# Altium integrated library TI Logic Buffer Line Driver.IntLib: 1053 symbols (part 10 of 17)
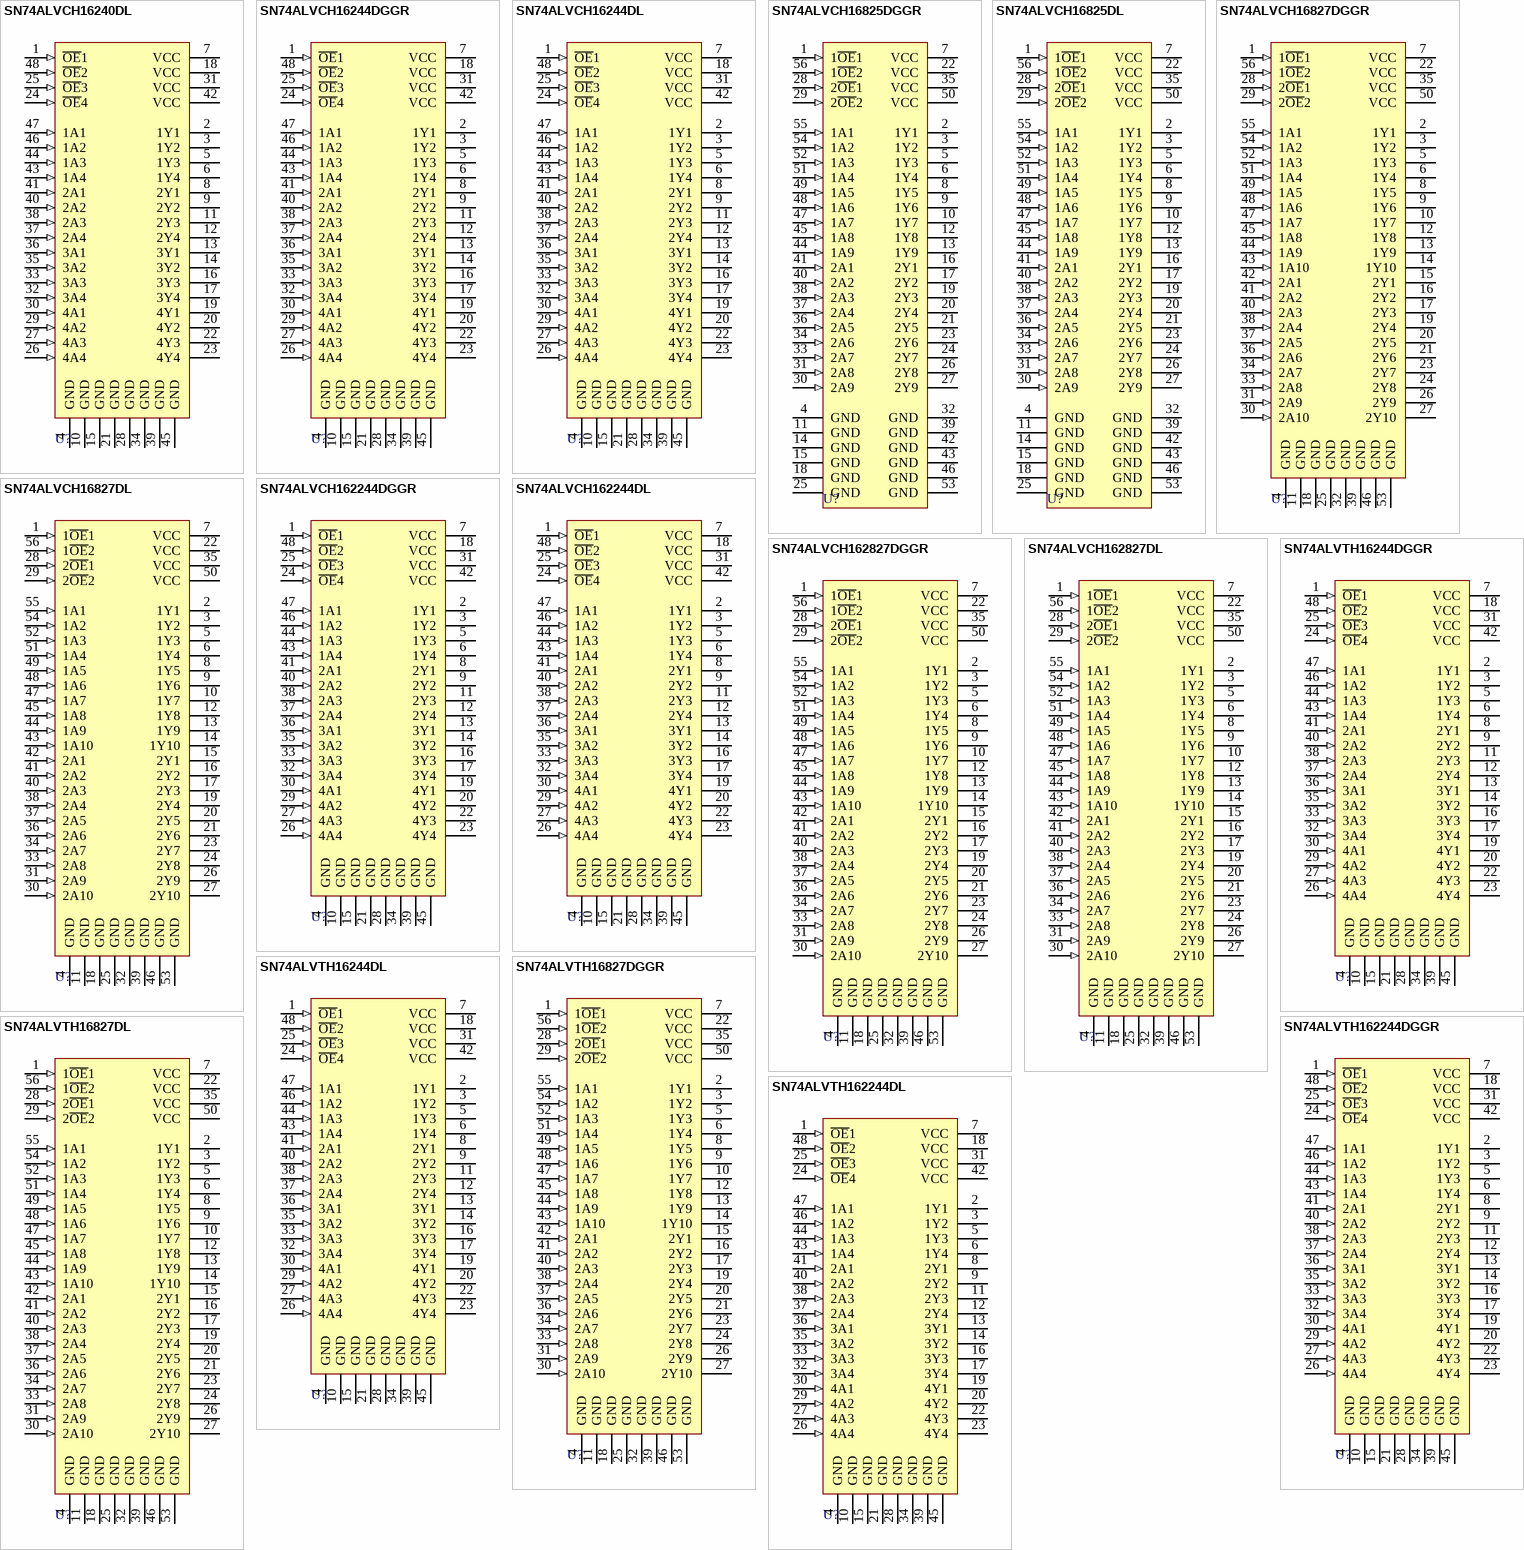
[diagram p54: symbols SN74ALVCH16240DL to SN74ALVTH162244DL]

## SN74ALVTH16827DGGR
designator U?
2.5-V/3.3-V 20-Bit Buffer/Driver with 3-State Outputs; Package Information: Latest Revision: Jan-1998; Published: 8-Jun-2000; Revision: 17-Jul-2002: Re-released for DXP Platform.; Datasheet: Latest Revision: Dec-1998; Package Reference: DGG056; Publisher: Altium Limited
footprint DGG056 (Shrink Small Outline; 56 Leads; Body Width 6.1 mm; Pitch 0.5 mm)
pins: 1 1~{OE}1 (in), 2 1Y1 (hiz), 3 1Y2 (hiz), 4 GND (power), 5 1Y3 (hiz), 6 1Y4 (hiz), 7 VCC (power), 8 1Y5 (hiz), 9 1Y6 (hiz), 10 1Y7 (hiz), 11 GND (power), 12 1Y8 (hiz), 13 1Y9 (hiz), 14 1Y10 (hiz), 15 2Y1 (hiz), 16 2Y2 (hiz), 17 2Y3 (hiz), 18 GND (power), 19 2Y4 (hiz), 20 2Y5 (hiz), 21 2Y6 (hiz), 22 VCC (power), 23 2Y7 (hiz), 24 2Y8 (hiz), 25 GND (power), 26 2Y9 (hiz), 27 2Y10 (hiz), 28 2~{OE}1 (in), 29 2~{OE}2 (in), 30 2A10 (in), 31 2A9 (in), 32 GND (power), 33 2A8 (in), 34 2A7 (in), 35 VCC (power), 36 2A6 (in), 37 2A5 (in), 38 2A4 (in), 39 GND (power), 40 2A3 (in), 41 2A2 (in), 42 2A1 (in), 43 1A10 (in), 44 1A9 (in), 45 1A8 (in), 46 GND (power), 47 1A7 (in), 48 1A6 (in), 49 1A5 (in), 50 VCC (power), 51 1A4 (in), 52 1A3 (in), 53 GND (power), 54 1A2 (in), 55 1A1 (in), 56 1~{OE}2 (in)

## SN74ALVTH16827DL
designator U?
2.5-V/3.3-V 20-Bit Buffer/Driver with 3-State Outputs; Package Information: Latest Revision: Jan-1998; Code - JEDEC: MO-118-AB; Code - IPC: SSO56; Published: 8-Jun-2000; Revision: 17-Jul-2002: Re-released for DXP Platform.; Datasheet: Latest Revision: Dec-1998; Package Reference: DL056; Publisher: Altium Limited
footprint DL056 (SSOP; 56 Leads; Body Width 7.5 mm; Pitch 0.635 mm)
pins: 1 1~{OE}1 (in), 2 1Y1 (hiz), 3 1Y2 (hiz), 4 GND (power), 5 1Y3 (hiz), 6 1Y4 (hiz), 7 VCC (power), 8 1Y5 (hiz), 9 1Y6 (hiz), 10 1Y7 (hiz), 11 GND (power), 12 1Y8 (hiz), 13 1Y9 (hiz), 14 1Y10 (hiz), 15 2Y1 (hiz), 16 2Y2 (hiz), 17 2Y3 (hiz), 18 GND (power), 19 2Y4 (hiz), 20 2Y5 (hiz), 21 2Y6 (hiz), 22 VCC (power), 23 2Y7 (hiz), 24 2Y8 (hiz), 25 GND (power), 26 2Y9 (hiz), 27 2Y10 (hiz), 28 2~{OE}1 (in), 29 2~{OE}2 (in), 30 2A10 (in), 31 2A9 (in), 32 GND (power), 33 2A8 (in), 34 2A7 (in), 35 VCC (power), 36 2A6 (in), 37 2A5 (in), 38 2A4 (in), 39 GND (power), 40 2A3 (in), 41 2A2 (in), 42 2A1 (in), 43 1A10 (in), 44 1A9 (in), 45 1A8 (in), 46 GND (power), 47 1A7 (in), 48 1A6 (in), 49 1A5 (in), 50 VCC (power), 51 1A4 (in), 52 1A3 (in), 53 GND (power), 54 1A2 (in), 55 1A1 (in), 56 1~{OE}2 (in)

## SN74ALVTH162244DGGR
designator U?
2.5-V/3.3-V 16-Bit Buffer/Driver with 3-State Outputs; Package Information: Latest Revision: Jan-1998; Published: 8-Jun-2000; Revision: 17-Jul-2002: Re-released for DXP Platform.; Datasheet: Latest Revision: Jan-1999; Package Reference: DGG048; Publisher: Altium Limited
footprint DGG048 (Shrink Small Outline; 48 Leads; Body Width 6.1 mm; Pitch 0.5 mm)
pins: 1 ~{OE}1 (in), 2 1Y1 (hiz), 3 1Y2 (hiz), 4 GND (power), 5 1Y3 (hiz), 6 1Y4 (hiz), 7 VCC (power), 8 2Y1 (hiz), 9 2Y2 (hiz), 10 GND (power), 11 2Y3 (hiz), 12 2Y4 (hiz), 13 3Y1 (hiz), 14 3Y2 (hiz), 15 GND (power), 16 3Y3 (hiz), 17 3Y4 (hiz), 18 VCC (power), 19 4Y1 (hiz), 20 4Y2 (hiz), 21 GND (power), 22 4Y3 (hiz), 23 4Y4 (hiz), 24 ~{OE}4 (in), 25 ~{OE}3 (in), 26 4A4 (in), 27 4A3 (in), 28 GND (power), 29 4A2 (in), 30 4A1 (in), 31 VCC (power), 32 3A4 (in), 33 3A3 (in), 34 GND (power), 35 3A2 (in), 36 3A1 (in), 37 2A4 (in), 38 2A3 (in), 39 GND (power), 40 2A2 (in), 41 2A1 (in), 42 VCC (power), 43 1A4 (in), 44 1A3 (in), 45 GND (power), 46 1A2 (in), 47 1A1 (in), 48 ~{OE}2 (in)

## SN74ALVTH162244DL
designator U?
2.5-V/3.3-V 16-Bit Buffer/Driver with 3-State Outputs; Package Information: Latest Revision: Jan-1998; Code - JEDEC: MO-118-AA; Code - IPC: SSO48; Published: 8-Jun-2000; Revision: 17-Jul-2002: Re-released for DXP Platform.; Datasheet: Latest Revision: Jan-1999; Package Reference: DL048; Publisher: Altium Limited
footprint DL048 (SSOP; 48 Leads; Body Width 7.5 mm; Pitch 0.635 mm)
pins: 1 ~{OE}1 (in), 2 1Y1 (hiz), 3 1Y2 (hiz), 4 GND (power), 5 1Y3 (hiz), 6 1Y4 (hiz), 7 VCC (power), 8 2Y1 (hiz), 9 2Y2 (hiz), 10 GND (power), 11 2Y3 (hiz), 12 2Y4 (hiz), 13 3Y1 (hiz), 14 3Y2 (hiz), 15 GND (power), 16 3Y3 (hiz), 17 3Y4 (hiz), 18 VCC (power), 19 4Y1 (hiz), 20 4Y2 (hiz), 21 GND (power), 22 4Y3 (hiz), 23 4Y4 (hiz), 24 ~{OE}4 (in), 25 ~{OE}3 (in), 26 4A4 (in), 27 4A3 (in), 28 GND (power), 29 4A2 (in), 30 4A1 (in), 31 VCC (power), 32 3A4 (in), 33 3A3 (in), 34 GND (power), 35 3A2 (in), 36 3A1 (in), 37 2A4 (in), 38 2A3 (in), 39 GND (power), 40 2A2 (in), 41 2A1 (in), 42 VCC (power), 43 1A4 (in), 44 1A3 (in), 45 GND (power), 46 1A2 (in), 47 1A1 (in), 48 ~{OE}2 (in)

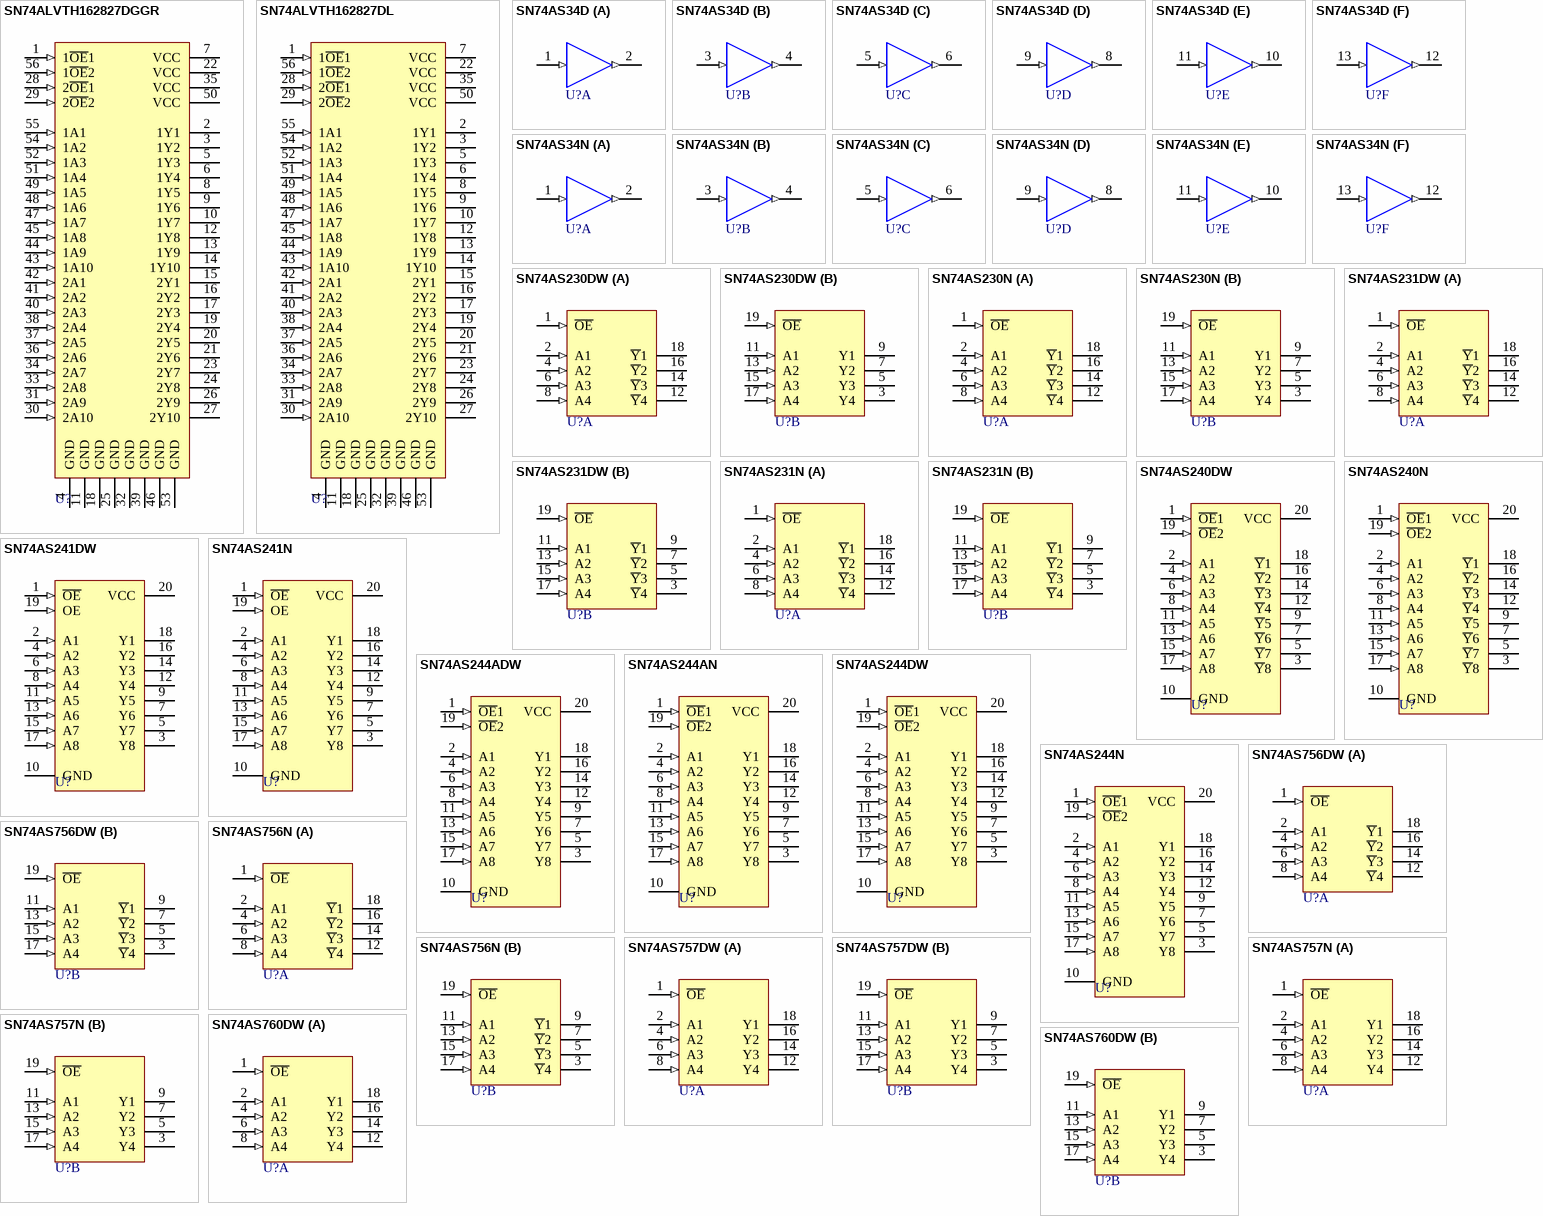
[diagram p25: symbols SN74ALVTH162827DGGR to SN74AS760DW]

## SN74ALVTH162827DGGR
designator U?
2.5-V/3.3-V 20-Bit Buffer/Driver with 3-State Outputs; Package Information: Latest Revision: Jan-1998; Published: 8-Jun-2000; Revision: 17-Jul-2002: Re-released for DXP Platform.; Datasheet: Latest Revision: Dec-1998; Package Reference: DGG056; Publisher: Altium Limited
footprint DGG056 (Shrink Small Outline; 56 Leads; Body Width 6.1 mm; Pitch 0.5 mm)
pins: 1 1~{OE}1 (in), 2 1Y1 (hiz), 3 1Y2 (hiz), 4 GND (power), 5 1Y3 (hiz), 6 1Y4 (hiz), 7 VCC (power), 8 1Y5 (hiz), 9 1Y6 (hiz), 10 1Y7 (hiz), 11 GND (power), 12 1Y8 (hiz), 13 1Y9 (hiz), 14 1Y10 (hiz), 15 2Y1 (hiz), 16 2Y2 (hiz), 17 2Y3 (hiz), 18 GND (power), 19 2Y4 (hiz), 20 2Y5 (hiz), 21 2Y6 (hiz), 22 VCC (power), 23 2Y7 (hiz), 24 2Y8 (hiz), 25 GND (power), 26 2Y9 (hiz), 27 2Y10 (hiz), 28 2~{OE}1 (in), 29 2~{OE}2 (in), 30 2A10 (in), 31 2A9 (in), 32 GND (power), 33 2A8 (in), 34 2A7 (in), 35 VCC (power), 36 2A6 (in), 37 2A5 (in), 38 2A4 (in), 39 GND (power), 40 2A3 (in), 41 2A2 (in), 42 2A1 (in), 43 1A10 (in), 44 1A9 (in), 45 1A8 (in), 46 GND (power), 47 1A7 (in), 48 1A6 (in), 49 1A5 (in), 50 VCC (power), 51 1A4 (in), 52 1A3 (in), 53 GND (power), 54 1A2 (in), 55 1A1 (in), 56 1~{OE}2 (in)

## SN74ALVTH162827DL
designator U?
2.5-V/3.3-V 20-Bit Buffer/Driver with 3-State Outputs; Package Information: Latest Revision: Jan-1998; Code - JEDEC: MO-118-AB; Code - IPC: SSO56; Published: 8-Jun-2000; Revision: 17-Jul-2002: Re-released for DXP Platform.; Datasheet: Latest Revision: Dec-1998; Package Reference: DL056; Publisher: Altium Limited
footprint DL056 (SSOP; 56 Leads; Body Width 7.5 mm; Pitch 0.635 mm)
pins: 1 1~{OE}1 (in), 2 1Y1 (hiz), 3 1Y2 (hiz), 4 GND (power), 5 1Y3 (hiz), 6 1Y4 (hiz), 7 VCC (power), 8 1Y5 (hiz), 9 1Y6 (hiz), 10 1Y7 (hiz), 11 GND (power), 12 1Y8 (hiz), 13 1Y9 (hiz), 14 1Y10 (hiz), 15 2Y1 (hiz), 16 2Y2 (hiz), 17 2Y3 (hiz), 18 GND (power), 19 2Y4 (hiz), 20 2Y5 (hiz), 21 2Y6 (hiz), 22 VCC (power), 23 2Y7 (hiz), 24 2Y8 (hiz), 25 GND (power), 26 2Y9 (hiz), 27 2Y10 (hiz), 28 2~{OE}1 (in), 29 2~{OE}2 (in), 30 2A10 (in), 31 2A9 (in), 32 GND (power), 33 2A8 (in), 34 2A7 (in), 35 VCC (power), 36 2A6 (in), 37 2A5 (in), 38 2A4 (in), 39 GND (power), 40 2A3 (in), 41 2A2 (in), 42 2A1 (in), 43 1A10 (in), 44 1A9 (in), 45 1A8 (in), 46 GND (power), 47 1A7 (in), 48 1A6 (in), 49 1A5 (in), 50 VCC (power), 51 1A4 (in), 52 1A3 (in), 53 GND (power), 54 1A2 (in), 55 1A1 (in), 56 1~{OE}2 (in)

## SN74AS34D
designator U?
Hex Non-Inverter; Revision 1: 16-Jan-2001: Symbol size reduced. Output electrical type changed from HiZ to Output.; Revision 2: 17-Jul-2002: Re-released for DXP Platform.; Package Information: Latest Revision: Jan-1998; Published: 8-Jun-2000; Datasheet: Latest Revision: May-1986; Package Reference: D014; Publisher: Altium Limited
footprint D014 (Small Outline; 14 Leads; Body Width 3.9 mm; Pitch 1.27 mm)
signal-integrity model SN74AS34D
pins on every part: 7 GND (power) hidden to GND, 14 VCC (power) hidden to VCC
part A pins: 1 A (in), 2 Y (out)
part B pins: 3 A (in), 4 Y (out)
part C pins: 5 A (in), 6 Y (out)
part D pins: 8 Y (out), 9 A (in)
part E pins: 10 Y (out), 11 A (in)
part F pins: 12 Y (out), 13 A (in)

## SN74AS34N
designator U?
Hex Non-Inverter; Revision 1: 16-Jan-2001: Symbol size reduced. Output electrical type changed from HiZ to Output.; Revision 2: 17-Jul-2002: Re-released for DXP Platform.; Package Information: Latest Revision: Oct-1995; Published: 8-Jun-2000; Datasheet: Latest Revision: May-1986; Package Reference: N014; Publisher: Altium Limited
footprint N014 (DIP; 14 Leads; Row Spacing 7.62 mm; Pitch 2.54 mm)
signal-integrity model SN74AS34N
pins on every part: 7 GND (power) hidden to GND, 14 VCC (power) hidden to VCC
part A pins: 1 A (in), 2 Y (out)
part B pins: 3 A (in), 4 Y (out)
part C pins: 5 A (in), 6 Y (out)
part D pins: 8 Y (out), 9 A (in)
part E pins: 10 Y (out), 11 A (in)
part F pins: 12 Y (out), 13 A (in)

## SN74AS230DW
designator U?
Octal Buffer/Driver with 3-State Outputs; Package Information: Latest Revision: Mar-2000; Code - JEDEC: MS-013; Published: 8-Jun-2000; Revision: 17-Jul-2002: Re-released for DXP Platform.; Datasheet: 1986 ALS/AS Logic Data Book (May-1986); Package Reference: DW020; Publisher: Altium Limited
footprint DW020 (Plastic Small Outline; 20 Leads; Body Width 7.5 mm)
signal-integrity model SN74AS230DW
pins on every part: 10 GND (power) hidden to GND, 20 VCC (power) hidden to VCC
part A pins: 1 ~{OE} (in), 2 A1 (in), 4 A2 (in), 6 A3 (in), 8 A4 (in), 12 ~{Y}4 (hiz), 14 ~{Y}3 (hiz), 16 ~{Y}2 (hiz), 18 ~{Y}1 (hiz)
part B pins: 3 Y4 (hiz), 5 Y3 (hiz), 7 Y2 (hiz), 9 Y1 (hiz), 11 A1 (in), 13 A2 (in), 15 A3 (in), 17 A4 (in), 19 ~{OE} (in)

## SN74AS230N
designator U?
Octal Buffer/Driver with 3-State Outputs; Package Information: Latest Revision: Oct-1995; Published: 8-Jun-2000; Revision: 17-Jul-2002: Re-released for DXP Platform.; Datasheet: 1986 ALS/AS Logic Data Book (May-1986); Package Reference: N020D; Publisher: Altium Limited
footprint N020D (DIP; 20 Leads; Row Spacing 7.62 mm; Pitch 2.54 mm)
signal-integrity model SN74AS230N
pins on every part: 10 GND (power) hidden to GND, 20 VCC (power) hidden to VCC
part A pins: 1 ~{OE} (in), 2 A1 (in), 4 A2 (in), 6 A3 (in), 8 A4 (in), 12 ~{Y}4 (hiz), 14 ~{Y}3 (hiz), 16 ~{Y}2 (hiz), 18 ~{Y}1 (hiz)
part B pins: 3 Y4 (hiz), 5 Y3 (hiz), 7 Y2 (hiz), 9 Y1 (hiz), 11 A1 (in), 13 A2 (in), 15 A3 (in), 17 A4 (in), 19 ~{OE} (in)

## SN74AS231DW
designator U?
Octal Buffer/Driver with 3-State Outputs; Package Information: Latest Revision: Mar-2000; Code - JEDEC: MS-013; Published: 8-Jun-2000; Revision: 17-Jul-2002: Re-released for DXP Platform.; Datasheet: 1986 ALS/AS Logic Data Book (May-1986); Package Reference: DW020; Publisher: Altium Limited
footprint DW020 (Plastic Small Outline; 20 Leads; Body Width 7.5 mm)
signal-integrity model SN74AS231DW
pins on every part: 10 GND (power) hidden to GND, 20 VCC (power) hidden to VCC
part A pins: 1 ~{OE} (in), 2 A1 (in), 4 A2 (in), 6 A3 (in), 8 A4 (in), 12 ~{Y}4 (hiz), 14 ~{Y}3 (hiz), 16 ~{Y}2 (hiz), 18 ~{Y}1 (hiz)
part B pins: 3 ~{Y}4 (hiz), 5 ~{Y}3 (hiz), 7 ~{Y}2 (hiz), 9 ~{Y}1 (hiz), 11 A1 (in), 13 A2 (in), 15 A3 (in), 17 A4 (in), 19 ~{OE} (in)

## SN74AS231N
designator U?
Octal Buffer/Driver with 3-State Outputs; Package Information: Latest Revision: Oct-1995; Published: 8-Jun-2000; Revision: 17-Jul-2002: Re-released for DXP Platform.; Datasheet: 1986 ALS/AS Logic Data Book (May-1986); Package Reference: N020D; Publisher: Altium Limited
footprint N020D (DIP; 20 Leads; Row Spacing 7.62 mm; Pitch 2.54 mm)
signal-integrity model SN74AS231N
pins on every part: 10 GND (power) hidden to GND, 20 VCC (power) hidden to VCC
part A pins: 1 ~{OE} (in), 2 A1 (in), 4 A2 (in), 6 A3 (in), 8 A4 (in), 12 ~{Y}4 (hiz), 14 ~{Y}3 (hiz), 16 ~{Y}2 (hiz), 18 ~{Y}1 (hiz)
part B pins: 3 ~{Y}4 (hiz), 5 ~{Y}3 (hiz), 7 ~{Y}2 (hiz), 9 ~{Y}1 (hiz), 11 A1 (in), 13 A2 (in), 15 A3 (in), 17 A4 (in), 19 ~{OE} (in)

## SN74AS240DW
designator U?
Octal Buffer/Driver with 3-State Outputs; Package Information: Latest Revision: Mar-2000; Code - JEDEC: MS-013; Published: 8-Jun-2000; Revision: 17-Jul-2002: Re-released for DXP Platform.; Datasheet: Latest Revision: Aug-1995; Package Reference: DW020; Publisher: Altium Limited
footprint DW020 (Plastic Small Outline; 20 Leads; Body Width 7.5 mm)
signal-integrity model SN74AS240DW
pins: 1 ~{OE}1 (in), 2 A1 (in), 3 ~{Y}8 (hiz), 4 A2 (in), 5 ~{Y}7 (hiz), 6 A3 (in), 7 ~{Y}6 (hiz), 8 A4 (in), 9 ~{Y}5 (hiz), 10 GND (power), 11 A5 (in), 12 ~{Y}4 (hiz), 13 A6 (in), 14 ~{Y}3 (hiz), 15 A7 (in), 16 ~{Y}2 (hiz), 17 A8 (in), 18 ~{Y}1 (hiz), 19 ~{OE}2 (in), 20 VCC (power)

## SN74AS240N
designator U?
Octal Buffer/Driver with 3-State Outputs; Package Information: Latest Revision: Oct-1995; Published: 8-Jun-2000; Revision: 17-Jul-2002: Re-released for DXP Platform.; Datasheet: Latest Revision: Aug-1995; Package Reference: N020; Publisher: Altium Limited
footprint N020 (DIP; 20 Leads; Row Spacing 7.62 mm; Pitch 2.54 mm)
signal-integrity model SN74AS240N
pins: 1 ~{OE}1 (in), 2 A1 (in), 3 ~{Y}8 (hiz), 4 A2 (in), 5 ~{Y}7 (hiz), 6 A3 (in), 7 ~{Y}6 (hiz), 8 A4 (in), 9 ~{Y}5 (hiz), 10 GND (power), 11 A5 (in), 12 ~{Y}4 (hiz), 13 A6 (in), 14 ~{Y}3 (hiz), 15 A7 (in), 16 ~{Y}2 (hiz), 17 A8 (in), 18 ~{Y}1 (hiz), 19 ~{OE}2 (in), 20 VCC (power)

## SN74AS241DW
designator U?
Octal Buffer/Driver with 3-State Outputs; Package Information: Latest Revision: Mar-2000; Code - JEDEC: MS-013; Published: 8-Jun-2000; Revision: 17-Jul-2002: Re-released for DXP Platform.; Datasheet: Latest Revision: May-1994; Package Reference: DW020; Publisher: Altium Limited
footprint DW020 (Plastic Small Outline; 20 Leads; Body Width 7.5 mm)
signal-integrity model SN74AS241DW
pins: 1 ~{OE}  (in), 2 A1 (in), 3 Y8 (hiz), 4 A2 (in), 5 Y7 (hiz), 6 A3 (in), 7 Y6 (hiz), 8 A4 (in), 9 Y5 (hiz), 10 GND (power), 11 A5 (in), 12 Y4 (hiz), 13 A6  (in), 14 Y3 (hiz), 15 A7  (in), 16 Y2 (hiz), 17 A8 (in), 18 Y1 (hiz), 19 OE (in), 20 VCC (power)

## SN74AS241N
designator U?
Octal Buffer/Driver with 3-State Outputs; Package Information: Latest Revision: Oct-1995; Published: 8-Jun-2000; Revision: 17-Jul-2002: Re-released for DXP Platform.; Datasheet: Latest Revision: May-1994; Package Reference: N020; Publisher: Altium Limited
footprint N020 (DIP; 20 Leads; Row Spacing 7.62 mm; Pitch 2.54 mm)
signal-integrity model SN74AS241N
pins: 1 ~{OE}  (in), 2 A1 (in), 3 Y8 (hiz), 4 A2 (in), 5 Y7 (hiz), 6 A3 (in), 7 Y6 (hiz), 8 A4 (in), 9 Y5 (hiz), 10 GND (power), 11 A5 (in), 12 Y4 (hiz), 13 A6  (in), 14 Y3 (hiz), 15 A7  (in), 16 Y2 (hiz), 17 A8 (in), 18 Y1 (hiz), 19 OE (in), 20 VCC (power)

## SN74AS244ADW
designator U?
Octal Buffer/Driver with 3-State Outputs; Package Information: Latest Revision: Mar-2000; Code - JEDEC: MS-013; Published: 8-Jun-2000; Revision: 17-Jul-2002: Re-released for DXP Platform.; Datasheet: Latest Revision: Aug-1995; Package Reference: DW020; Publisher: Altium Limited
footprint DW020 (Plastic Small Outline; 20 Leads; Body Width 7.5 mm)
signal-integrity model SN74AS244ADW
pins: 1 ~{OE}1 (in), 2 A1 (in), 3 Y8 (hiz), 4 A2 (in), 5 Y7 (hiz), 6 A3 (in), 7 Y6 (hiz), 8 A4 (in), 9 Y5 (hiz), 10 GND (power), 11 A5 (in), 12 Y4 (hiz), 13 A6 (in), 14 Y3 (hiz), 15 A7 (in), 16 Y2 (hiz), 17 A8 (in), 18 Y1 (hiz), 19 ~{OE}2 (in), 20 VCC (power)

## SN74AS244AN
designator U?
Octal Buffer/Driver with 3-State Outputs; Package Information: Latest Revision: Oct-1995; Published: 8-Jun-2000; Revision: 17-Jul-2002: Re-released for DXP Platform.; Datasheet: Latest Revision: Aug-1995; Package Reference: N020; Publisher: Altium Limited
footprint N020 (DIP; 20 Leads; Row Spacing 7.62 mm; Pitch 2.54 mm)
signal-integrity model SN74AS244AN
pins: 1 ~{OE}1 (in), 2 A1 (in), 3 Y8 (hiz), 4 A2 (in), 5 Y7 (hiz), 6 A3 (in), 7 Y6 (hiz), 8 A4 (in), 9 Y5 (hiz), 10 GND (power), 11 A5 (in), 12 Y4 (hiz), 13 A6 (in), 14 Y3 (hiz), 15 A7 (in), 16 Y2 (hiz), 17 A8 (in), 18 Y1 (hiz), 19 ~{OE}2 (in), 20 VCC (power)

## SN74AS244DW
designator U?
Octal Buffer and Line Driver with 3-State Outputs; Package Information: Latest Revision: Mar-2000; Code - JEDEC: MS-013; Published: 8-Jun-2000; Revision: 17-Jul-2002: Re-released for DXP Platform.; Datasheet: Latest Revision: Jul-1987; Package Reference: DW020; Publisher: Altium Limited
footprint DW020 (Plastic Small Outline; 20 Leads; Body Width 7.5 mm)
signal-integrity model SN74AS244DW
pins: 1 ~{OE}1 (in), 2 A1 (in), 3 Y8 (hiz), 4 A2 (in), 5 Y7 (hiz), 6 A3 (in), 7 Y6 (hiz), 8 A4 (in), 9 Y5 (hiz), 10 GND (power), 11 A5 (in), 12 Y4 (hiz), 13 A6 (in), 14 Y3 (hiz), 15 A7 (in), 16 Y2 (hiz), 17 A8 (in), 18 Y1 (hiz), 19 ~{OE}2 (in), 20 VCC (power)

## SN74AS244N
designator U?
Octal Buffer and Line Driver with 3-State Outputs; Package Information: Latest Revision: Oct-1995; Published: 8-Jun-2000; Revision: 17-Jul-2002: Re-released for DXP Platform.; Datasheet: Latest Revision: Jul-1987; Package Reference: N020; Publisher: Altium Limited
footprint N020 (DIP; 20 Leads; Row Spacing 7.62 mm; Pitch 2.54 mm)
signal-integrity model SN74AS244N
pins: 1 ~{OE}1 (in), 2 A1 (in), 3 Y8 (hiz), 4 A2 (in), 5 Y7 (hiz), 6 A3 (in), 7 Y6 (hiz), 8 A4 (in), 9 Y5 (hiz), 10 GND (power), 11 A5 (in), 12 Y4 (hiz), 13 A6 (in), 14 Y3 (hiz), 15 A7 (in), 16 Y2 (hiz), 17 A8 (in), 18 Y1 (hiz), 19 ~{OE}2 (in), 20 VCC (power)

## SN74AS756DW
designator U?
Octal Buffer and Line Driver with Open-Collector Outputs; Package Information: Latest Revision: Mar-2000; Code - JEDEC: MS-013; Published: 8-Jun-2000; Revision: 17-Jul-2002: Re-released for DXP Platform.; Datasheet: Latest Revision: Jan-1995; Package Reference: DW020; Publisher: Altium Limited
footprint DW020 (Plastic Small Outline; 20 Leads; Body Width 7.5 mm)
signal-integrity model SN74AS756DW
pins on every part: 10 GND (power) hidden to GND, 20 VCC (power) hidden to VCC
part A pins: 1 ~{OE} (in), 2 A1 (in), 4 A2 (in), 6 A3 (in), 8 A4 (in), 12 ~{Y}4 (hiz), 14 ~{Y}3 (hiz), 16 ~{Y}2 (hiz), 18 ~{Y}1 (hiz)
part B pins: 3 ~{Y}4 (hiz), 5 ~{Y}3 (hiz), 7 ~{Y}2 (hiz), 9 ~{Y}1 (hiz), 11 A1 (in), 13 A2 (in), 15 A3 (in), 17 A4 (in), 19 ~{OE} (in)

## SN74AS756N
designator U?
Octal Buffer and Line Driver with Open-Collector Outputs; Package Information: Latest Revision: Oct-1995; Published: 8-Jun-2000; Revision: 17-Jul-2002: Re-released for DXP Platform.; Datasheet: Latest Revision: Jan-1995; Package Reference: N020; Publisher: Altium Limited
footprint N020 (DIP; 20 Leads; Row Spacing 7.62 mm; Pitch 2.54 mm)
signal-integrity model SN74AS756N
pins on every part: 10 GND (power) hidden to GND, 20 VCC (power) hidden to VCC
part A pins: 1 ~{OE} (in), 2 A1 (in), 4 A2 (in), 6 A3 (in), 8 A4 (in), 12 ~{Y}4 (hiz), 14 ~{Y}3 (hiz), 16 ~{Y}2 (hiz), 18 ~{Y}1 (hiz)
part B pins: 3 ~{Y}4 (hiz), 5 ~{Y}3 (hiz), 7 ~{Y}2 (hiz), 9 ~{Y}1 (hiz), 11 A1 (in), 13 A2 (in), 15 A3 (in), 17 A4 (in), 19 ~{OE} (in)

## SN74AS757DW
designator U?
Octal Buffer and Line Driver with Open-Collector Outputs; Package Information: Latest Revision: Mar-2000; Code - JEDEC: MS-013; Published: 8-Jun-2000; Revision: 17-Jul-2002: Re-released for DXP Platform.; Datasheet: Latest Revision: Jan-1995; Package Reference: DW020; Publisher: Altium Limited
footprint DW020 (Plastic Small Outline; 20 Leads; Body Width 7.5 mm)
signal-integrity model SN74AS757DW
pins on every part: 10 GND (power) hidden to GND, 20 VCC (power) hidden to VCC
part A pins: 1 ~{OE} (in), 2 A1 (in), 4 A2 (in), 6 A3 (in), 8 A4 (in), 12 Y4 (hiz), 14 Y3 (hiz), 16 Y2 (hiz), 18 Y1 (hiz)
part B pins: 3 Y4 (hiz), 5 Y3 (hiz), 7 Y2 (hiz), 9 Y1 (hiz), 11 A1 (in), 13 A2 (in), 15 A3 (in), 17 A4 (in), 19 ~{OE} (in)

## SN74AS757N
designator U?
Octal Buffer and Line Driver with Open-Collector Outputs; Package Information: Latest Revision: Oct-1995; Published: 8-Jun-2000; Revision: 17-Jul-2002: Re-released for DXP Platform.; Datasheet: Latest Revision: Jan-1995; Package Reference: N020; Publisher: Altium Limited
footprint N020 (DIP; 20 Leads; Row Spacing 7.62 mm; Pitch 2.54 mm)
signal-integrity model SN74AS757N
pins on every part: 10 GND (power) hidden to GND, 20 VCC (power) hidden to VCC
part A pins: 1 ~{OE} (in), 2 A1 (in), 4 A2 (in), 6 A3 (in), 8 A4 (in), 12 Y4 (hiz), 14 Y3 (hiz), 16 Y2 (hiz), 18 Y1 (hiz)
part B pins: 3 Y4 (hiz), 5 Y3 (hiz), 7 Y2 (hiz), 9 Y1 (hiz), 11 A1 (in), 13 A2 (in), 15 A3 (in), 17 A4 (in), 19 ~{OE} (in)

## SN74AS760DW
designator U?
Octal Buffer and Line Driver with Open-Collector Outputs; Package Information: Latest Revision: Mar-2000; Code - JEDEC: MS-013; Published: 8-Jun-2000; Revision: 17-Jul-2002: Re-released for DXP Platform.; Datasheet: Latest Revision: Jan-1995; Package Reference: DW020; Publisher: Altium Limited
footprint DW020 (Plastic Small Outline; 20 Leads; Body Width 7.5 mm)
signal-integrity model SN74AS760DW
pins on every part: 10 GND (power) hidden to GND, 20 VCC (power) hidden to VCC
part A pins: 1 ~{OE} (in), 2 A1 (in), 4 A2 (in), 6 A3 (in), 8 A4 (in), 12 Y4 (hiz), 14 Y3 (hiz), 16 Y2 (hiz), 18 Y1 (hiz)
part B pins: 3 Y4 (hiz), 5 Y3 (hiz), 7 Y2 (hiz), 9 Y1 (hiz), 11 A1 (in), 13 A2 (in), 15 A3 (in), 17 A4 (in), 19 ~{OE} (in)

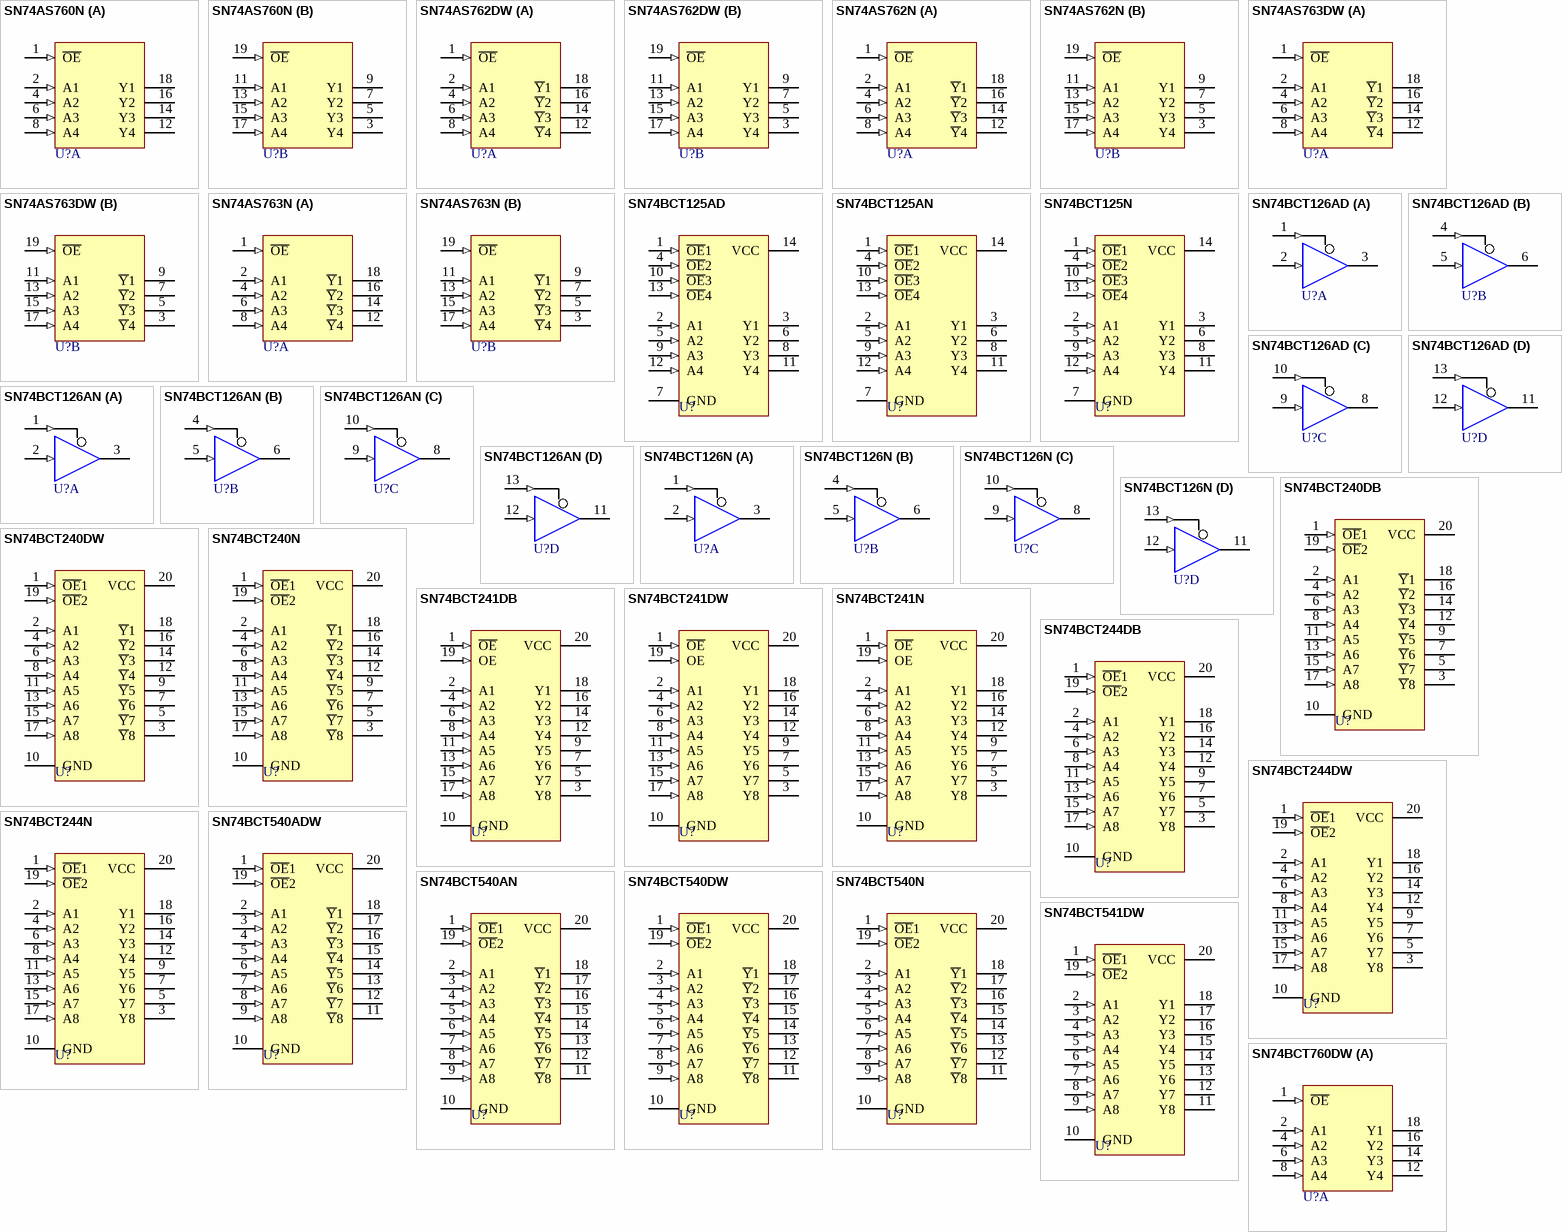
[diagram p26: symbols SN74AS760N to SN74BCT760DW]

## SN74AS760N
designator U?
Octal Buffer and Line Driver with Open-Collector Outputs; Package Information: Latest Revision: Oct-1995; Published: 8-Jun-2000; Revision: 17-Jul-2002: Re-released for DXP Platform.; Datasheet: Latest Revision: Jan-1995; Package Reference: N020; Publisher: Altium Limited
footprint N020 (DIP; 20 Leads; Row Spacing 7.62 mm; Pitch 2.54 mm)
signal-integrity model SN74AS760N
pins on every part: 10 GND (power) hidden to GND, 20 VCC (power) hidden to VCC
part A pins: 1 ~{OE} (in), 2 A1 (in), 4 A2 (in), 6 A3 (in), 8 A4 (in), 12 Y4 (hiz), 14 Y3 (hiz), 16 Y2 (hiz), 18 Y1 (hiz)
part B pins: 3 Y4 (hiz), 5 Y3 (hiz), 7 Y2 (hiz), 9 Y1 (hiz), 11 A1 (in), 13 A2 (in), 15 A3 (in), 17 A4 (in), 19 ~{OE} (in)

## SN74AS762DW
designator U?
Octal Buffer and Line Driver with Open-Collector Outputs; Package Information: Latest Revision: Mar-2000; Code - JEDEC: MS-013; Published: 8-Jun-2000; Revision: 17-Jul-2002: Re-released for DXP Platform.; Datasheet: Latest Revision: May-1996; Package Reference: DW020; Publisher: Altium Limited
footprint DW020 (Plastic Small Outline; 20 Leads; Body Width 7.5 mm)
signal-integrity model SN74AS762DW
pins on every part: 10 GND (power) hidden to GND, 20 VCC (power) hidden to VCC
part A pins: 1 ~{OE} (in), 2 A1 (in), 4 A2 (in), 6 A3 (in), 8 A4 (in), 12 ~{Y}4 (hiz), 14 ~{Y}3 (hiz), 16 ~{Y}2 (hiz), 18 ~{Y}1 (hiz)
part B pins: 3 Y4 (hiz), 5 Y3 (hiz), 7 Y2 (hiz), 9 Y1 (hiz), 11 A1 (in), 13 A2 (in), 15 A3 (in), 17 A4 (in), 19 ~{OE} (in)

## SN74AS762N
designator U?
Octal Buffer and Line Driver with Open-Collector Outputs; Package Information: Latest Revision: Oct-1995; Published: 8-Jun-2000; Revision: 17-Jul-2002: Re-released for DXP Platform.; Datasheet: Latest Revision: May-1996; Package Reference: N020; Publisher: Altium Limited
footprint N020 (DIP; 20 Leads; Row Spacing 7.62 mm; Pitch 2.54 mm)
signal-integrity model SN74AS762N
pins on every part: 10 GND (power) hidden to GND, 20 VCC (power) hidden to VCC
part A pins: 1 ~{OE} (in), 2 A1 (in), 4 A2 (in), 6 A3 (in), 8 A4 (in), 12 ~{Y}4 (hiz), 14 ~{Y}3 (hiz), 16 ~{Y}2 (hiz), 18 ~{Y}1 (hiz)
part B pins: 3 Y4 (hiz), 5 Y3 (hiz), 7 Y2 (hiz), 9 Y1 (hiz), 11 A1 (in), 13 A2 (in), 15 A3 (in), 17 A4 (in), 19 ~{OE} (in)

## SN74AS763DW
designator U?
Octal Buffer and Line Driver with Open-Collector Outputs; Package Information: Latest Revision: Mar-2000; Code - JEDEC: MS-013; Published: 8-Jun-2000; Revision: 17-Jul-2002: Re-released for DXP Platform.; Datasheet: Latest Revision: May-1996; Package Reference: DW020; Publisher: Altium Limited
footprint DW020 (Plastic Small Outline; 20 Leads; Body Width 7.5 mm)
signal-integrity model SN74AS763DW
pins on every part: 10 GND (power) hidden to GND, 20 VCC (power) hidden to VCC
part A pins: 1 ~{OE} (in), 2 A1 (in), 4 A2 (in), 6 A3 (in), 8 A4 (in), 12 ~{Y}4 (hiz), 14 ~{Y}3 (hiz), 16 ~{Y}2 (hiz), 18 ~{Y}1 (hiz)
part B pins: 3 ~{Y}4 (hiz), 5 ~{Y}3 (hiz), 7 ~{Y}2 (hiz), 9 ~{Y}1 (hiz), 11 A1 (in), 13 A2 (in), 15 A3 (in), 17 A4 (in), 19 ~{OE} (in)

## SN74AS763N
designator U?
Octal Buffer and Line Driver with Open-Collector Outputs; Package Information: Latest Revision: Oct-1995; Published: 8-Jun-2000; Revision: 17-Jul-2002: Re-released for DXP Platform.; Datasheet: Latest Revision: May-1996; Package Reference: N020; Publisher: Altium Limited
footprint N020 (DIP; 20 Leads; Row Spacing 7.62 mm; Pitch 2.54 mm)
signal-integrity model SN74AS763N
pins on every part: 10 GND (power) hidden to GND, 20 VCC (power) hidden to VCC
part A pins: 1 ~{OE} (in), 2 A1 (in), 4 A2 (in), 6 A3 (in), 8 A4 (in), 12 ~{Y}4 (hiz), 14 ~{Y}3 (hiz), 16 ~{Y}2 (hiz), 18 ~{Y}1 (hiz)
part B pins: 3 ~{Y}4 (hiz), 5 ~{Y}3 (hiz), 7 ~{Y}2 (hiz), 9 ~{Y}1 (hiz), 11 A1 (in), 13 A2 (in), 15 A3 (in), 17 A4 (in), 19 ~{OE} (in)

## SN74BCT125AD
designator U?
Quadruple Bus Buffer Gate with 3-State Outputs; Package Information: Latest Revision: Jan-1998; Published: 8-Jun-2000; Revision: 17-Jul-2002: Re-released for DXP Platform.; Datasheet: Latest Revision: Apr-1994; Package Reference: D014; Publisher: Altium Limited
footprint D014 (Small Outline; 14 Leads; Body Width 3.9 mm; Pitch 1.27 mm)
signal-integrity model SN74BCT125AD
pins: 1 ~{OE}1 (in), 2 A1 (in), 3 Y1 (hiz), 4 ~{OE}2 (in), 5 A2 (in), 6 Y2 (hiz), 7 GND (power), 8 Y3 (hiz), 9 A3 (in), 10 ~{OE}3 (in), 11 Y4 (hiz), 12 A4 (in), 13 ~{OE}4 (in), 14 VCC (power)

## SN74BCT125AN
designator U?
Quadruple Bus Buffer Gate with 3-State Outputs; Package Information: Latest Revision: Oct-1995; Published: 8-Jun-2000; Revision: 17-Jul-2002: Re-released for DXP Platform.; Datasheet: Latest Revision: Apr-1994; Package Reference: N014; Publisher: Altium Limited
footprint N014 (DIP; 14 Leads; Row Spacing 7.62 mm; Pitch 2.54 mm)
signal-integrity model SN74BCT125AN
pins: 1 ~{OE}1 (in), 2 A1 (in), 3 Y1 (hiz), 4 ~{OE}2 (in), 5 A2 (in), 6 Y2 (hiz), 7 GND (power), 8 Y3 (hiz), 9 A3 (in), 10 ~{OE}3 (in), 11 Y4 (hiz), 12 A4 (in), 13 ~{OE}4 (in), 14 VCC (power)

## SN74BCT125N
designator U?
Quadruple Bus Buffer Gate with 3-State Outputs; Package Information: Latest Revision: Oct-1995; Published: 8-Jun-2000; Revision: 17-Jul-2002: Re-released for DXP Platform.; Datasheet: Latest Revision: May-1989; Package Reference: N014C; Publisher: Altium Limited
footprint N014C (DIP; 14 Leads; Row Spacing 7.62 mm; Pitch 2.54 mm)
signal-integrity model SN74BCT125N
pins: 1 ~{OE}1 (in), 2 A1 (in), 3 Y1 (hiz), 4 ~{OE}2 (in), 5 A2 (in), 6 Y2 (hiz), 7 GND (power), 8 Y3 (hiz), 9 A3 (in), 10 ~{OE}3 (in), 11 Y4 (hiz), 12 A4 (in), 13 ~{OE}4 (in), 14 VCC (power)

## SN74BCT126AD
designator U?
Quadruple Bus Buffer Gate with 3-State Outputs; Package Information: Latest Revision: Jan-1998; Published: 8-Jun-2000; Revision: 17-Jul-2002: Re-released for DXP Platform.; Datasheet: Latest Revision: Apr-1994; Package Reference: D014; Publisher: Altium Limited
footprint D014 (Small Outline; 14 Leads; Body Width 3.9 mm; Pitch 1.27 mm)
signal-integrity model SN74BCT126AD
pins on every part: 7 GND (power) hidden to GND, 14 VCC (power) hidden to VCC
part A pins: 1 OE (in), 2 A (in), 3 Y (hiz)
part B pins: 4 OE (in), 5 A (in), 6 Y (hiz)
part C pins: 8 Y (hiz), 9 A (in), 10 OE (in)
part D pins: 11 Y (hiz), 12 A (in), 13 OE (in)

## SN74BCT126AN
designator U?
Quadruple Bus Buffer Gate with 3-State Outputs; Package Information: Latest Revision: Oct-1995; Published: 8-Jun-2000; Revision: 17-Jul-2002: Re-released for DXP Platform.; Datasheet: Latest Revision: Apr-1994; Package Reference: N014; Publisher: Altium Limited
footprint N014 (DIP; 14 Leads; Row Spacing 7.62 mm; Pitch 2.54 mm)
signal-integrity model SN74BCT126AN
pins on every part: 7 GND (power) hidden to GND, 14 VCC (power) hidden to VCC
part A pins: 1 OE (in), 2 A (in), 3 Y (hiz)
part B pins: 4 OE (in), 5 A (in), 6 Y (hiz)
part C pins: 8 Y (hiz), 9 A (in), 10 OE (in)
part D pins: 11 Y (hiz), 12 A (in), 13 OE (in)

## SN74BCT126N
designator U?
Quadruple Bus Buffer Gate with 3-State Outputs; Package Information: Latest Revision: Oct-1995; Published: 8-Jun-2000; Revision: 17-Jul-2002: Re-released for DXP Platform.; Datasheet: Latest Revision: May-1989; Package Reference: N014C; Publisher: Altium Limited
footprint N014C (DIP; 14 Leads; Row Spacing 7.62 mm; Pitch 2.54 mm)
signal-integrity model SN74BCT126N
pins on every part: 7 GND (power) hidden to GND, 14 VCC (power) hidden to VCC
part A pins: 1 OE (in), 2 A (in), 3 Y (hiz)
part B pins: 4 OE (in), 5 A (in), 6 Y (hiz)
part C pins: 8 Y (hiz), 9 A (in), 10 OE (in)
part D pins: 11 Y (hiz), 12 A (in), 13 OE (in)

## SN74BCT240DB
designator U?
Octal Buffer/Driver with 3-State Outputs; Package Information: Latest Revision: May-1999; Code - JEDEC: MO-150-AE; Published: 8-Jun-2000; Revision: 17-Jul-2002: Re-released for DXP Platform.; Datasheet: Latest Revision: Apr-1994; Package Reference: DB020; Publisher: Altium Limited
footprint DB020 (Plastic SSOP; 20 Leads; Body Width 5.3 mm; Pitch 0.65 mm)
signal-integrity model SN74BCT240DB
pins: 1 ~{OE}1 (in), 2 A1 (in), 3 ~{Y}8 (hiz), 4 A2 (in), 5 ~{Y}7 (hiz), 6 A3 (in), 7 ~{Y}6 (hiz), 8 A4 (in), 9 ~{Y}5 (hiz), 10 GND (power), 11 A5 (in), 12 ~{Y}4 (hiz), 13 A6 (in), 14 ~{Y}3 (hiz), 15 A7 (in), 16 ~{Y}2 (hiz), 17 A8 (in), 18 ~{Y}1 (hiz), 19 ~{OE}2 (in), 20 VCC (power)

## SN74BCT240DW
designator U?
Octal Buffer/Driver with 3-State Outputs; Package Information: Latest Revision: Mar-2000; Code - JEDEC: MS-013; Published: 8-Jun-2000; Revision: 17-Jul-2002: Re-released for DXP Platform.; Datasheet: Latest Revision: Apr-1994; Package Reference: DW020; Publisher: Altium Limited
footprint DW020 (Plastic Small Outline; 20 Leads; Body Width 7.5 mm)
signal-integrity model SN74BCT240DW
pins: 1 ~{OE}1 (in), 2 A1 (in), 3 ~{Y}8 (hiz), 4 A2 (in), 5 ~{Y}7 (hiz), 6 A3 (in), 7 ~{Y}6 (hiz), 8 A4 (in), 9 ~{Y}5 (hiz), 10 GND (power), 11 A5 (in), 12 ~{Y}4 (hiz), 13 A6 (in), 14 ~{Y}3 (hiz), 15 A7 (in), 16 ~{Y}2 (hiz), 17 A8 (in), 18 ~{Y}1 (hiz), 19 ~{OE}2 (in), 20 VCC (power)

## SN74BCT240N
designator U?
Octal Buffer/Driver with 3-State Outputs; Package Information: Latest Revision: Oct-1995; Published: 8-Jun-2000; Revision: 17-Jul-2002: Re-released for DXP Platform.; Datasheet: Latest Revision: Apr-1994; Package Reference: N020; Publisher: Altium Limited
footprint N020 (DIP; 20 Leads; Row Spacing 7.62 mm; Pitch 2.54 mm)
signal-integrity model SN74BCT240N
pins: 1 ~{OE}1 (in), 2 A1 (in), 3 ~{Y}8 (hiz), 4 A2 (in), 5 ~{Y}7 (hiz), 6 A3 (in), 7 ~{Y}6 (hiz), 8 A4 (in), 9 ~{Y}5 (hiz), 10 GND (power), 11 A5 (in), 12 ~{Y}4 (hiz), 13 A6 (in), 14 ~{Y}3 (hiz), 15 A7 (in), 16 ~{Y}2 (hiz), 17 A8 (in), 18 ~{Y}1 (hiz), 19 ~{OE}2 (in), 20 VCC (power)

## SN74BCT241DB
designator U?
Octal Buffer/Driver with 3-State Outputs; Package Information: Latest Revision: May-1999; Code - JEDEC: MO-150-AE; Published: 8-Jun-2000; Revision: 17-Jul-2002: Re-released for DXP Platform.; Datasheet: Latest Revision: Apr-1994; Package Reference: DB020; Publisher: Altium Limited
footprint DB020 (Plastic SSOP; 20 Leads; Body Width 5.3 mm; Pitch 0.65 mm)
signal-integrity model SN74BCT241DB
pins: 1 ~{OE}  (in), 2 A1 (in), 3 Y8 (hiz), 4 A2 (in), 5 Y7 (hiz), 6 A3 (in), 7 Y6 (hiz), 8 A4 (in), 9 Y5 (hiz), 10 GND (power), 11 A5 (in), 12 Y4 (hiz), 13 A6  (in), 14 Y3 (hiz), 15 A7  (in), 16 Y2 (hiz), 17 A8 (in), 18 Y1 (hiz), 19 OE (in), 20 VCC (power)

## SN74BCT241DW
designator U?
Octal Buffer/Driver with 3-State Outputs; Package Information: Latest Revision: Mar-2000; Code - JEDEC: MS-013; Published: 8-Jun-2000; Revision: 17-Jul-2002: Re-released for DXP Platform.; Datasheet: Latest Revision: Apr-1994; Package Reference: DW020; Publisher: Altium Limited
footprint DW020 (Plastic Small Outline; 20 Leads; Body Width 7.5 mm)
signal-integrity model SN74BCT241DW
pins: 1 ~{OE}  (in), 2 A1 (in), 3 Y8 (hiz), 4 A2 (in), 5 Y7 (hiz), 6 A3 (in), 7 Y6 (hiz), 8 A4 (in), 9 Y5 (hiz), 10 GND (power), 11 A5 (in), 12 Y4 (hiz), 13 A6  (in), 14 Y3 (hiz), 15 A7  (in), 16 Y2 (hiz), 17 A8 (in), 18 Y1 (hiz), 19 OE (in), 20 VCC (power)

## SN74BCT241N
designator U?
Octal Buffer/Driver with 3-State Outputs; Package Information: Latest Revision: Oct-1995; Published: 8-Jun-2000; Revision: 17-Jul-2002: Re-released for DXP Platform.; Datasheet: Latest Revision: Apr-1994; Package Reference: N020; Publisher: Altium Limited
footprint N020 (DIP; 20 Leads; Row Spacing 7.62 mm; Pitch 2.54 mm)
signal-integrity model SN74BCT241N
pins: 1 ~{OE}  (in), 2 A1 (in), 3 Y8 (hiz), 4 A2 (in), 5 Y7 (hiz), 6 A3 (in), 7 Y6 (hiz), 8 A4 (in), 9 Y5 (hiz), 10 GND (power), 11 A5 (in), 12 Y4 (hiz), 13 A6  (in), 14 Y3 (hiz), 15 A7  (in), 16 Y2 (hiz), 17 A8 (in), 18 Y1 (hiz), 19 OE (in), 20 VCC (power)

## SN74BCT244DB
designator U?
Octal Buffer/Driver with 3-State Outputs; Package Information: Latest Revision: May-1999; Code - JEDEC: MO-150-AE; Published: 8-Jun-2000; Revision: 17-Jul-2002: Re-released for DXP Platform.; Datasheet: Latest Revision: Apr-1994; Package Reference: DB020; Publisher: Altium Limited
footprint DB020 (Plastic SSOP; 20 Leads; Body Width 5.3 mm; Pitch 0.65 mm)
signal-integrity model SN74BCT244DB
pins: 1 ~{OE}1 (in), 2 A1 (in), 3 Y8 (hiz), 4 A2 (in), 5 Y7 (hiz), 6 A3 (in), 7 Y6 (hiz), 8 A4 (in), 9 Y5 (hiz), 10 GND (power), 11 A5 (in), 12 Y4 (hiz), 13 A6 (in), 14 Y3 (hiz), 15 A7 (in), 16 Y2 (hiz), 17 A8 (in), 18 Y1 (hiz), 19 ~{OE}2 (in), 20 VCC (power)

## SN74BCT244DW
designator U?
Octal Buffer/Driver with 3-State Outputs; Package Information: Latest Revision: Mar-2000; Code - JEDEC: MS-013; Published: 8-Jun-2000; Revision: 17-Jul-2002: Re-released for DXP Platform.; Datasheet: Latest Revision: Apr-1994; Package Reference: DW020; Publisher: Altium Limited
footprint DW020 (Plastic Small Outline; 20 Leads; Body Width 7.5 mm)
signal-integrity model SN74BCT244DW
pins: 1 ~{OE}1 (in), 2 A1 (in), 3 Y8 (hiz), 4 A2 (in), 5 Y7 (hiz), 6 A3 (in), 7 Y6 (hiz), 8 A4 (in), 9 Y5 (hiz), 10 GND (power), 11 A5 (in), 12 Y4 (hiz), 13 A6 (in), 14 Y3 (hiz), 15 A7 (in), 16 Y2 (hiz), 17 A8 (in), 18 Y1 (hiz), 19 ~{OE}2 (in), 20 VCC (power)

## SN74BCT244N
designator U?
Octal Buffer/Driver with 3-State Outputs; Package Information: Latest Revision: Oct-1995; Published: 8-Jun-2000; Revision: 17-Jul-2002: Re-released for DXP Platform.; Datasheet: Latest Revision: Apr-1994; Package Reference: N020; Publisher: Altium Limited
footprint N020 (DIP; 20 Leads; Row Spacing 7.62 mm; Pitch 2.54 mm)
signal-integrity model SN74BCT244N
pins: 1 ~{OE}1 (in), 2 A1 (in), 3 Y8 (hiz), 4 A2 (in), 5 Y7 (hiz), 6 A3 (in), 7 Y6 (hiz), 8 A4 (in), 9 Y5 (hiz), 10 GND (power), 11 A5 (in), 12 Y4 (hiz), 13 A6 (in), 14 Y3 (hiz), 15 A7 (in), 16 Y2 (hiz), 17 A8 (in), 18 Y1 (hiz), 19 ~{OE}2 (in), 20 VCC (power)

## SN74BCT540ADW
designator U?
Octal Buffer/Driver with 3-State Outputs; Package Information: Latest Revision: Mar-2000; Code - JEDEC: MS-013; Published: 8-Jun-2000; Revision: 17-Jul-2002: Re-released for DXP Platform.; Datasheet: Latest Revision: Sep-1994; Package Reference: DW020; Publisher: Altium Limited
footprint DW020 (Plastic Small Outline; 20 Leads; Body Width 7.5 mm)
signal-integrity model SN74BCT540ADW
pins: 1 ~{OE}1 (in), 2 A1 (in), 3 A2 (in), 4 A3 (in), 5 A4 (in), 6 A5 (in), 7 A6 (in), 8 A7 (in), 9 A8 (in), 10 GND (power), 11 ~{Y}8 (hiz), 12 ~{Y}7 (hiz), 13 ~{Y}6 (hiz), 14 ~{Y}5 (hiz), 15 ~{Y}4 (hiz), 16 ~{Y}3 (hiz), 17 ~{Y}2 (hiz), 18 ~{Y}1 (hiz), 19 ~{OE}2 (in), 20 VCC (power)

## SN74BCT540AN
designator U?
Octal Buffer/Driver with 3-State Outputs; Package Information: Latest Revision: Oct-1995; Published: 8-Jun-2000; Revision: 17-Jul-2002: Re-released for DXP Platform.; Datasheet: Latest Revision: Sep-1994; Package Reference: N020; Publisher: Altium Limited
footprint N020 (DIP; 20 Leads; Row Spacing 7.62 mm; Pitch 2.54 mm)
signal-integrity model SN74BCT540AN
pins: 1 ~{OE}1 (in), 2 A1 (in), 3 A2 (in), 4 A3 (in), 5 A4 (in), 6 A5 (in), 7 A6 (in), 8 A7 (in), 9 A8 (in), 10 GND (power), 11 ~{Y}8 (hiz), 12 ~{Y}7 (hiz), 13 ~{Y}6 (hiz), 14 ~{Y}5 (hiz), 15 ~{Y}4 (hiz), 16 ~{Y}3 (hiz), 17 ~{Y}2 (hiz), 18 ~{Y}1 (hiz), 19 ~{OE}2 (in), 20 VCC (power)

## SN74BCT540DW
designator U?
Octal Buffer/Driver with 3-State Outputs; Package Information: Latest Revision: Mar-2000; Code - JEDEC: MS-013; Published: 8-Jun-2000; Revision: 17-Jul-2002: Re-released for DXP Platform.; Datasheet: Latest Revision: Apr-1994; Package Reference: DW020; Publisher: Altium Limited
footprint DW020 (Plastic Small Outline; 20 Leads; Body Width 7.5 mm)
signal-integrity model SN74BCT540DW
pins: 1 ~{OE}1 (in), 2 A1 (in), 3 A2 (in), 4 A3 (in), 5 A4 (in), 6 A5 (in), 7 A6 (in), 8 A7 (in), 9 A8 (in), 10 GND (power), 11 ~{Y}8 (hiz), 12 ~{Y}7 (hiz), 13 ~{Y}6 (hiz), 14 ~{Y}5 (hiz), 15 ~{Y}4 (hiz), 16 ~{Y}3 (hiz), 17 ~{Y}2 (hiz), 18 ~{Y}1 (hiz), 19 ~{OE}2 (in), 20 VCC (power)

## SN74BCT540N
designator U?
Octal Buffer/Driver with 3-State Outputs; Package Information: Latest Revision: Oct-1995; Published: 8-Jun-2000; Revision: 17-Jul-2002: Re-released for DXP Platform.; Datasheet: Latest Revision: Apr-1994; Package Reference: N020C; Publisher: Altium Limited
footprint N020C (DIP; 20 Leads; Row Spacing 7.62 mm; Pitch 2.54 mm)
signal-integrity model SN74BCT540N
pins: 1 ~{OE}1 (in), 2 A1 (in), 3 A2 (in), 4 A3 (in), 5 A4 (in), 6 A5 (in), 7 A6 (in), 8 A7 (in), 9 A8 (in), 10 GND (power), 11 ~{Y}8 (hiz), 12 ~{Y}7 (hiz), 13 ~{Y}6 (hiz), 14 ~{Y}5 (hiz), 15 ~{Y}4 (hiz), 16 ~{Y}3 (hiz), 17 ~{Y}2 (hiz), 18 ~{Y}1 (hiz), 19 ~{OE}2 (in), 20 VCC (power)

## SN74BCT541DW
designator U?
Octal Buffer/Driver with 3-State Outputs; Package Information: Latest Revision: Mar-2000; Code - JEDEC: MS-013; Published: 8-Jun-2000; Revision: 17-Jul-2002: Re-released for DXP Platform.; Datasheet: Latest Revision: Apr-1994; Package Reference: DW020; Publisher: Altium Limited
footprint DW020 (Plastic Small Outline; 20 Leads; Body Width 7.5 mm)
signal-integrity model SN74BCT541DW
pins: 1 ~{OE}1 (in), 2 A1 (in), 3 A2 (in), 4 A3 (in), 5 A4 (in), 6 A5 (in), 7 A6 (in), 8 A7 (in), 9 A8 (in), 10 GND (power), 11 Y8 (hiz), 12 Y7 (hiz), 13 Y6 (hiz), 14 Y5 (hiz), 15 Y4 (hiz), 16 Y3 (hiz), 17 Y2 (hiz), 18 Y1 (hiz), 19 ~{OE}2 (in), 20 VCC (power)

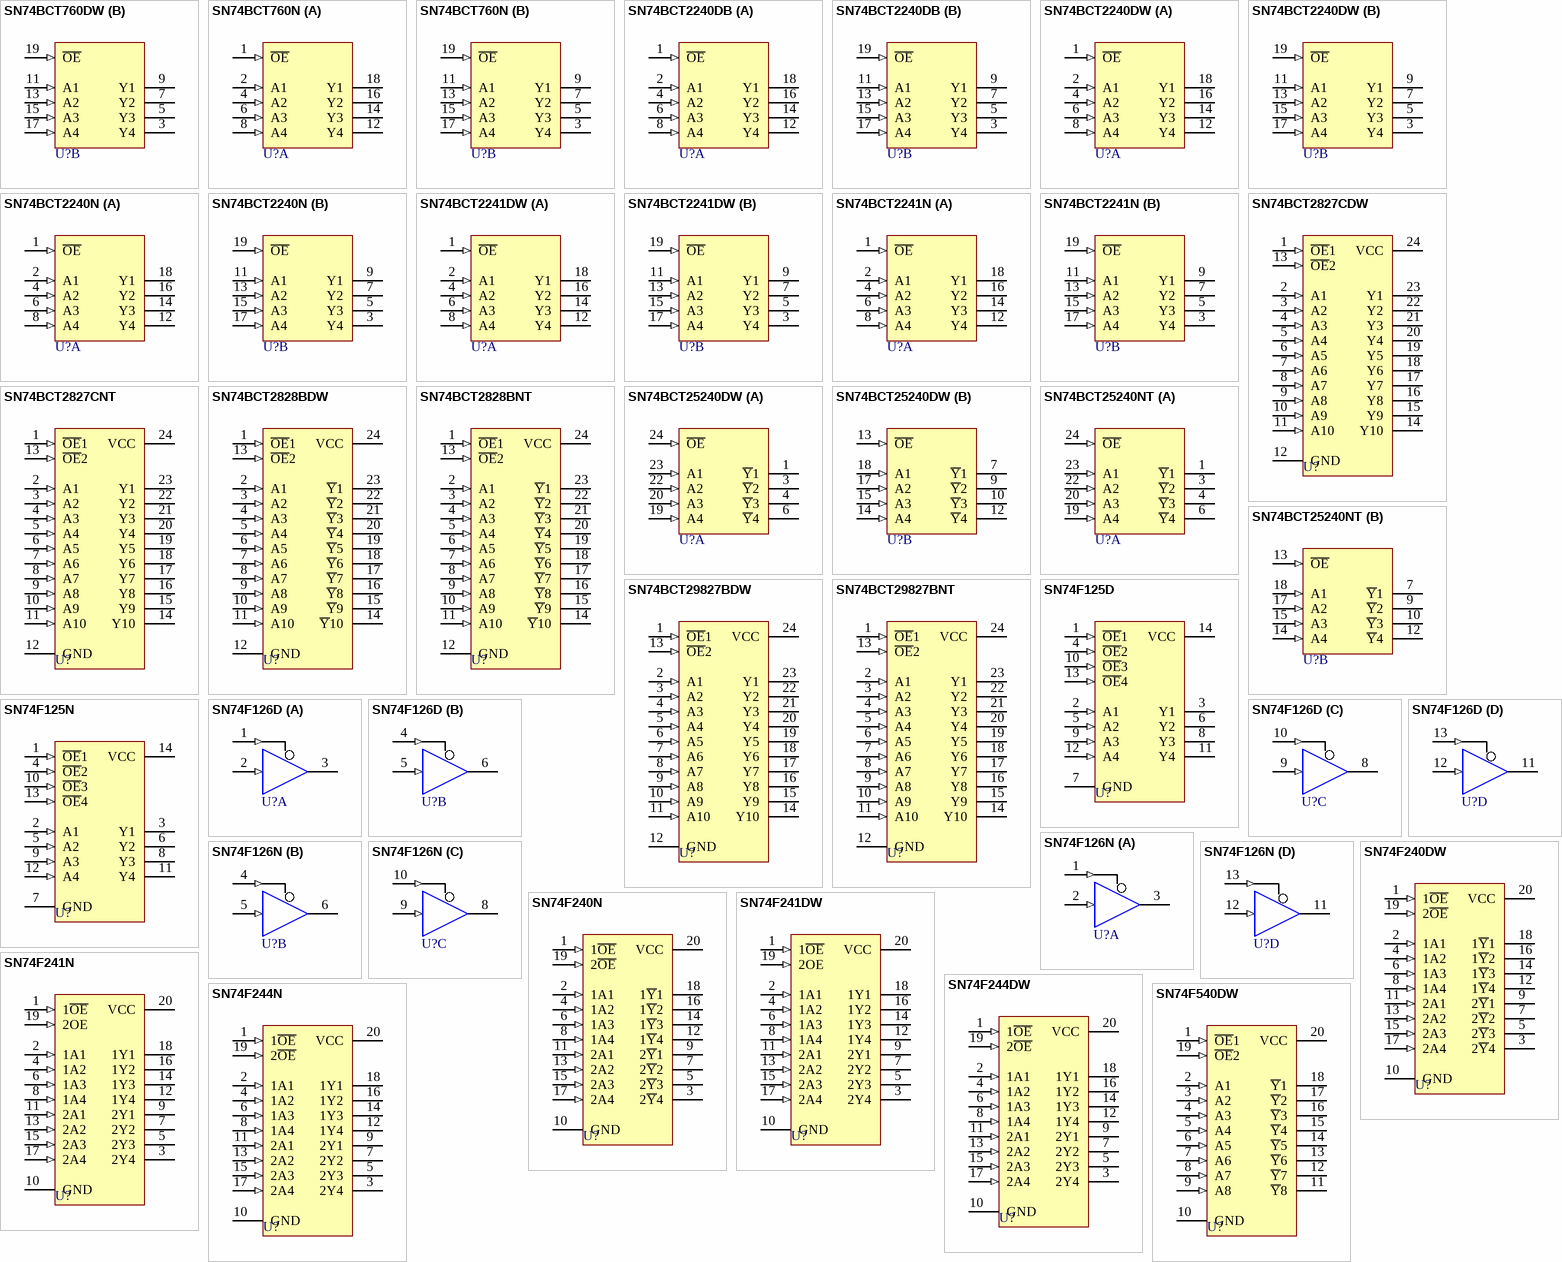
[diagram p27: symbols SN74BCT760DW to SN74F540DW]

## SN74BCT760DW
designator U?
Octal Buffer/Driver with Open-Collector Outputs; Package Information: Latest Revision: Mar-2000; Code - JEDEC: MS-013; Published: 8-Jun-2000; Revision: 17-Jul-2002: Re-released for DXP Platform.; Datasheet: Latest Revision: Nov-1993; Package Reference: DW020; Publisher: Altium Limited
footprint DW020 (Plastic Small Outline; 20 Leads; Body Width 7.5 mm)
signal-integrity model SN74BCT760DW
pins on every part: 10 GND (power) hidden to GND, 20 VCC (power) hidden to VCC
part A pins: 1 ~{OE} (in), 2 A1 (in), 4 A2 (in), 6 A3 (in), 8 A4 (in), 12 Y4 (hiz), 14 Y3 (hiz), 16 Y2 (hiz), 18 Y1 (hiz)
part B pins: 3 Y4 (hiz), 5 Y3 (hiz), 7 Y2 (hiz), 9 Y1 (hiz), 11 A1 (in), 13 A2 (in), 15 A3 (in), 17 A4 (in), 19 ~{OE} (in)

## SN74BCT760N
designator U?
Octal Buffer/Driver with Open-Collector Outputs; Package Information: Latest Revision: Oct-1995; Published: 8-Jun-2000; Revision: 17-Jul-2002: Re-released for DXP Platform.; Datasheet: Latest Revision: Nov-1993; Package Reference: N020; Publisher: Altium Limited
footprint N020 (DIP; 20 Leads; Row Spacing 7.62 mm; Pitch 2.54 mm)
signal-integrity model SN74BCT760N
pins on every part: 10 GND (power) hidden to GND, 20 VCC (power) hidden to VCC
part A pins: 1 ~{OE} (in), 2 A1 (in), 4 A2 (in), 6 A3 (in), 8 A4 (in), 12 Y4 (hiz), 14 Y3 (hiz), 16 Y2 (hiz), 18 Y1 (hiz)
part B pins: 3 Y4 (hiz), 5 Y3 (hiz), 7 Y2 (hiz), 9 Y1 (hiz), 11 A1 (in), 13 A2 (in), 15 A3 (in), 17 A4 (in), 19 ~{OE} (in)

## SN74BCT2240DB
designator U?
Octal Buffer and Line/MOS Driver with 3-State Outputs; Package Information: Latest Revision: May-1999; Code - JEDEC: MO-150-AE; Published: 8-Jun-2000; Revision: 17-Jul-2002: Re-released for DXP Platform.; Datasheet: Latest Revision: Apr-1994; Package Reference: DB020; Publisher: Altium Limited
footprint DB020 (Plastic SSOP; 20 Leads; Body Width 5.3 mm; Pitch 0.65 mm)
signal-integrity model SN74BCT2240DB
pins on every part: 10 GND (power) hidden to GND, 20 VCC (power) hidden to VCC
part A pins: 1 ~{OE} (in), 2 A1 (in), 4 A2 (in), 6 A3 (in), 8 A4 (in), 12 Y4 (hiz), 14 Y3 (hiz), 16 Y2 (hiz), 18 Y1 (hiz)
part B pins: 3 Y4 (hiz), 5 Y3 (hiz), 7 Y2 (hiz), 9 Y1 (hiz), 11 A1 (in), 13 A2 (in), 15 A3 (in), 17 A4 (in), 19 ~{OE} (in)

## SN74BCT2240DW
designator U?
Octal Buffer and Line/MOS Driver with 3-State Outputs; Package Information: Latest Revision: Mar-2000; Code - JEDEC: MS-013; Published: 8-Jun-2000; Revision: 17-Jul-2002: Re-released for DXP Platform.; Datasheet: Latest Revision: Apr-1994; Package Reference: DW020; Publisher: Altium Limited
footprint DW020 (Plastic Small Outline; 20 Leads; Body Width 7.5 mm)
signal-integrity model SN74BCT2240DW
pins on every part: 10 GND (power) hidden to GND, 20 VCC (power) hidden to VCC
part A pins: 1 ~{OE} (in), 2 A1 (in), 4 A2 (in), 6 A3 (in), 8 A4 (in), 12 Y4 (hiz), 14 Y3 (hiz), 16 Y2 (hiz), 18 Y1 (hiz)
part B pins: 3 Y4 (hiz), 5 Y3 (hiz), 7 Y2 (hiz), 9 Y1 (hiz), 11 A1 (in), 13 A2 (in), 15 A3 (in), 17 A4 (in), 19 ~{OE} (in)

## SN74BCT2240N
designator U?
Octal Buffer and Line/MOS Driver with 3-State Outputs; Package Information: Latest Revision: Oct-1995; Published: 8-Jun-2000; Revision: 17-Jul-2002: Re-released for DXP Platform.; Datasheet: Latest Revision: Apr-1994; Package Reference: N020; Publisher: Altium Limited
footprint N020 (DIP; 20 Leads; Row Spacing 7.62 mm; Pitch 2.54 mm)
signal-integrity model SN74BCT2240N
pins on every part: 10 GND (power) hidden to GND, 20 VCC (power) hidden to VCC
part A pins: 1 ~{OE} (in), 2 A1 (in), 4 A2 (in), 6 A3 (in), 8 A4 (in), 12 Y4 (hiz), 14 Y3 (hiz), 16 Y2 (hiz), 18 Y1 (hiz)
part B pins: 3 Y4 (hiz), 5 Y3 (hiz), 7 Y2 (hiz), 9 Y1 (hiz), 11 A1 (in), 13 A2 (in), 15 A3 (in), 17 A4 (in), 19 ~{OE} (in)

## SN74BCT2241DW
designator U?
Octal Buffer and Line/MOS Driver with 3-State Outputs; Package Information: Latest Revision: Mar-2000; Code - JEDEC: MS-013; Published: 8-Jun-2000; Revision: 17-Jul-2002: Re-released for DXP Platform.; Datasheet: Latest Revision: Nov-1993; Package Reference: DW020; Publisher: Altium Limited
footprint DW020 (Plastic Small Outline; 20 Leads; Body Width 7.5 mm)
signal-integrity model SN74BCT2241DW
pins on every part: 10 GND (power) hidden to GND, 20 VCC (power) hidden to VCC
part A pins: 1 ~{OE} (in), 2 A1 (in), 4 A2 (in), 6 A3 (in), 8 A4 (in), 12 Y4 (hiz), 14 Y3 (hiz), 16 Y2 (hiz), 18 Y1 (hiz)
part B pins: 3 Y4 (hiz), 5 Y3 (hiz), 7 Y2 (hiz), 9 Y1 (hiz), 11 A1 (in), 13 A2 (in), 15 A3 (in), 17 A4 (in), 19 ~{OE} (in)

## SN74BCT2241N
designator U?
Octal Buffer and Line/MOS Driver with 3-State Outputs; Package Information: Latest Revision: Oct-1995; Published: 8-Jun-2000; Revision: 17-Jul-2002: Re-released for DXP Platform.; Datasheet: Latest Revision: Nov-1993; Package Reference: N020; Publisher: Altium Limited
footprint N020 (DIP; 20 Leads; Row Spacing 7.62 mm; Pitch 2.54 mm)
signal-integrity model SN74BCT2241N
pins on every part: 10 GND (power) hidden to GND, 20 VCC (power) hidden to VCC
part A pins: 1 ~{OE} (in), 2 A1 (in), 4 A2 (in), 6 A3 (in), 8 A4 (in), 12 Y4 (hiz), 14 Y3 (hiz), 16 Y2 (hiz), 18 Y1 (hiz)
part B pins: 3 Y4 (hiz), 5 Y3 (hiz), 7 Y2 (hiz), 9 Y1 (hiz), 11 A1 (in), 13 A2 (in), 15 A3 (in), 17 A4 (in), 19 ~{OE} (in)

## SN74BCT2827CDW
designator U?
10-Bit Bus/MOS Memory Driver with 3-State Outputs; Package Information: Latest Revision: Mar-2000; Code - JEDEC: MS-013; Published: 8-Jun-2000; Revision: 17-Jul-2002: Re-released for DXP Platform.; Datasheet: Latest Revision: Nov-1993; Package Reference: DW024; Publisher: Altium Limited
footprint DW024 (Plastic Small Outline; 24 Leads; Body Width 7.5 mm)
signal-integrity model SN74BCT2827CDW
pins: 1 ~{OE}1 (in), 2 A1 (in), 3 A2 (in), 4 A3 (in), 5 A4 (in), 6 A5 (in), 7 A6 (in), 8 A7 (in), 9 A8 (in), 10 A9 (in), 11 A10 (in), 12 GND (power), 13 ~{OE}2 (in), 14 Y10 (hiz), 15 Y9 (hiz), 16 Y8 (hiz), 17 Y7 (hiz), 18 Y6 (hiz), 19 Y5 (hiz), 20 Y4 (hiz), 21 Y3 (hiz), 22 Y2 (hiz), 23 Y1 (hiz), 24 VCC (power)

## SN74BCT2827CNT
designator U?
10-Bit Bus/MOS Memory Driver with 3-State Outputs; Package Information: Latest Revision: Oct-1994; Code - JEDEC: MS-001-AF; Published: 8-Jun-2000; Revision: 17-Jul-2002: Re-released for DXP Platform.; Datasheet: Latest Revision: Nov-1993; Package Reference: NT024; Publisher: Altium Limited
footprint NT024 (DIP; 24 Leads; Row Spacing 7.62 mm; Pitch 2.54 mm)
signal-integrity model SN74BCT2827CNT
pins: 1 ~{OE}1 (in), 2 A1 (in), 3 A2 (in), 4 A3 (in), 5 A4 (in), 6 A5 (in), 7 A6 (in), 8 A7 (in), 9 A8 (in), 10 A9 (in), 11 A10 (in), 12 GND (power), 13 ~{OE}2 (in), 14 Y10 (hiz), 15 Y9 (hiz), 16 Y8 (hiz), 17 Y7 (hiz), 18 Y6 (hiz), 19 Y5 (hiz), 20 Y4 (hiz), 21 Y3 (hiz), 22 Y2 (hiz), 23 Y1 (hiz), 24 VCC (power)

## SN74BCT2828BDW
designator U?
10-Bit Bus/MOS Memory Driver with 3-State Outputs; Package Information: Latest Revision: Mar-2000; Code - JEDEC: MS-013; Published: 8-Jun-2000; Revision: 17-Jul-2002: Re-released for DXP Platform.; Datasheet: Latest Revision: Nov-1993; Package Reference: DW024; Publisher: Altium Limited
footprint DW024 (Plastic Small Outline; 24 Leads; Body Width 7.5 mm)
signal-integrity model SN74BCT2828BDW
pins: 1 ~{OE}1 (in), 2 A1 (in), 3 A2 (in), 4 A3 (in), 5 A4 (in), 6 A5 (in), 7 A6 (in), 8 A7 (in), 9 A8 (in), 10 A9 (in), 11 A10 (in), 12 GND (power), 13 ~{OE}2 (in), 14 ~{Y}10 (hiz), 15 ~{Y}9 (hiz), 16 ~{Y}8 (hiz), 17 ~{Y}7 (hiz), 18 ~{Y}6 (hiz), 19 ~{Y}5 (hiz), 20 ~{Y}4 (hiz), 21 ~{Y}3 (hiz), 22 ~{Y}2 (hiz), 23 ~{Y}1 (hiz), 24 VCC (power)

## SN74BCT2828BNT
designator U?
10-Bit Bus/MOS Memory Driver with 3-State Outputs; Package Information: Latest Revision: Oct-1994; Code - JEDEC: MS-001-AF; Published: 8-Jun-2000; Revision: 17-Jul-2002: Re-released for DXP Platform.; Datasheet: Latest Revision: Nov-1993; Package Reference: NT024; Publisher: Altium Limited
footprint NT024 (DIP; 24 Leads; Row Spacing 7.62 mm; Pitch 2.54 mm)
signal-integrity model SN74BCT2828BNT
pins: 1 ~{OE}1 (in), 2 A1 (in), 3 A2 (in), 4 A3 (in), 5 A4 (in), 6 A5 (in), 7 A6 (in), 8 A7 (in), 9 A8 (in), 10 A9 (in), 11 A10 (in), 12 GND (power), 13 ~{OE}2 (in), 14 ~{Y}10 (hiz), 15 ~{Y}9 (hiz), 16 ~{Y}8 (hiz), 17 ~{Y}7 (hiz), 18 ~{Y}6 (hiz), 19 ~{Y}5 (hiz), 20 ~{Y}4 (hiz), 21 ~{Y}3 (hiz), 22 ~{Y}2 (hiz), 23 ~{Y}1 (hiz), 24 VCC (power)

## SN74BCT25240DW
designator U?
25-Ohm Octal Buffer/Driver with 3-State Outputs; Package Information: Latest Revision: Mar-2000; Code - JEDEC: MS-013; Published: 8-Jun-2000; Revision: 17-Jul-2002: Re-released for DXP Platform.; Datasheet: Latest Revision: Nov-1993; Package Reference: DW024; Publisher: Altium Limited
footprint DW024 (Plastic Small Outline; 24 Leads; Body Width 7.5 mm)
signal-integrity model SN74BCT25240DW
pins on every part: 2 GND (power) hidden to GND, 5 GND (power) hidden to GND, 8 GND (power) hidden to GND, 11 GND (power) hidden to GND, 16 VCC (power) hidden to VCC, 21 VCC (power) hidden to VCC
part A pins: 1 ~{Y}1 (hiz), 3 ~{Y}2 (hiz), 4 ~{Y}3 (hiz), 6 ~{Y}4 (hiz), 19 A4 (in), 20 A3 (in), 22 A2 (in), 23 A1 (in), 24 ~{OE} (in)
part B pins: 7 ~{Y}1 (hiz), 9 ~{Y}2 (hiz), 10 ~{Y}3 (hiz), 12 ~{Y}4 (hiz), 13 ~{OE} (in), 14 A4 (in), 15 A3 (in), 17 A2 (in), 18 A1 (in)

## SN74BCT25240NT
designator U?
25-Ohm Octal Buffer/Driver with 3-State Outputs; Package Information: Latest Revision: Oct-1994; Code - JEDEC: MS-001-AF; Published: 8-Jun-2000; Revision: 17-Jul-2002: Re-released for DXP Platform.; Datasheet: Latest Revision: Nov-1993; Package Reference: NT024; Publisher: Altium Limited
footprint NT024 (DIP; 24 Leads; Row Spacing 7.62 mm; Pitch 2.54 mm)
signal-integrity model SN74BCT25240NT
pins on every part: 2 GND (power) hidden to GND, 5 GND (power) hidden to GND, 8 GND (power) hidden to GND, 11 GND (power) hidden to GND, 16 VCC (power) hidden to VCC, 21 VCC (power) hidden to VCC
part A pins: 1 ~{Y}1 (hiz), 3 ~{Y}2 (hiz), 4 ~{Y}3 (hiz), 6 ~{Y}4 (hiz), 19 A4 (in), 20 A3 (in), 22 A2 (in), 23 A1 (in), 24 ~{OE} (in)
part B pins: 7 ~{Y}1 (hiz), 9 ~{Y}2 (hiz), 10 ~{Y}3 (hiz), 12 ~{Y}4 (hiz), 13 ~{OE} (in), 14 A4 (in), 15 A3 (in), 17 A2 (in), 18 A1 (in)

## SN74BCT29827BDW
designator U?
10-Bit Buffer/Driver with 3-State Outputs; Package Information: Latest Revision: Mar-2000; Code - JEDEC: MS-013; Published: 8-Jun-2000; Revision: 17-Jul-2002: Re-released for DXP Platform.; Datasheet: Latest Revision: Nov-1993; Package Reference: DW024; Publisher: Altium Limited
footprint DW024 (Plastic Small Outline; 24 Leads; Body Width 7.5 mm)
signal-integrity model SN74BCT29827BDW
pins: 1 ~{OE}1 (in), 2 A1 (in), 3 A2 (in), 4 A3 (in), 5 A4 (in), 6 A5 (in), 7 A6 (in), 8 A7 (in), 9 A8 (in), 10 A9 (in), 11 A10 (in), 12 GND (power), 13 ~{OE}2 (in), 14 Y10 (hiz), 15 Y9 (hiz), 16 Y8 (hiz), 17 Y7 (hiz), 18 Y6 (hiz), 19 Y5 (hiz), 20 Y4 (hiz), 21 Y3 (hiz), 22 Y2 (hiz), 23 Y1 (hiz), 24 VCC (power)

## SN74BCT29827BNT
designator U?
10-Bit Buffer/Driver with 3-State Outputs; Package Information: Latest Revision: Oct-1994; Code - JEDEC: MS-001-AF; Published: 8-Jun-2000; Revision: 17-Jul-2002: Re-released for DXP Platform.; Datasheet: Latest Revision: Nov-1993; Package Reference: NT024; Publisher: Altium Limited
footprint NT024 (DIP; 24 Leads; Row Spacing 7.62 mm; Pitch 2.54 mm)
signal-integrity model SN74BCT29827BNT
pins: 1 ~{OE}1 (in), 2 A1 (in), 3 A2 (in), 4 A3 (in), 5 A4 (in), 6 A5 (in), 7 A6 (in), 8 A7 (in), 9 A8 (in), 10 A9 (in), 11 A10 (in), 12 GND (power), 13 ~{OE}2 (in), 14 Y10 (hiz), 15 Y9 (hiz), 16 Y8 (hiz), 17 Y7 (hiz), 18 Y6 (hiz), 19 Y5 (hiz), 20 Y4 (hiz), 21 Y3 (hiz), 22 Y2 (hiz), 23 Y1 (hiz), 24 VCC (power)

## SN74F125D
designator U?
Quadruple Bus Buffer Gate with 3-State Outputs; Revision 1: 12-Jul-2000: SIM Model Added.; Revision 2: 17-Jul-2002: Re-released for DXP Platform.; Package Information: Latest Revision: Jan-1998; Published: 8-Jun-2000; Datasheet: Latest Revision: Oct-1993; Package Reference: D014; Publisher: Altium Limited
footprint D014 (Small Outline; 14 Leads; Body Width 3.9 mm; Pitch 1.27 mm)
simulation model SN74F125 (SIMCODE)
signal-integrity model SN74F125D
pins: 1 ~{OE}1 (in), 2 A1 (in), 3 Y1 (hiz), 4 ~{OE}2 (in), 5 A2 (in), 6 Y2 (hiz), 7 GND (power), 8 Y3 (hiz), 9 A3 (in), 10 ~{OE}3 (in), 11 Y4 (hiz), 12 A4 (in), 13 ~{OE}4 (in), 14 VCC (power)